# Altium integrated library OnSemi.IntLib: 1 symbol
Pins are listed as number, name and electrical type; pins without a type are passive.

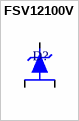
[diagram p0: symbol FSV12100V]

## FSV12100V
designator D?
Ultra-Low VF Schottky / Rectifier, 12 A, 100 V; Manufacturer_Part_Number: FSV12100V; SourceLibrary: ON_Semiconductor_2020-01-13; Vendor: ON Semiconductor; Built_By: EMA_Justin; Type: DEV; Copyright: Copyright (C) 2018 Accelerated Designs. All rights reserved; Datasheet: https://www.onsemi.com/pub/Collateral/FSV12100V-D.PDF; RefDes: RefDes; Value: Value
footprint TO-277-3LD_ONS
pins: 1, 2, 3